# Altium schematic symbol library AditionalSymbols.SchLib: 8 symbols
Pins are listed as number, name and electrical type; pins without a type are passive.

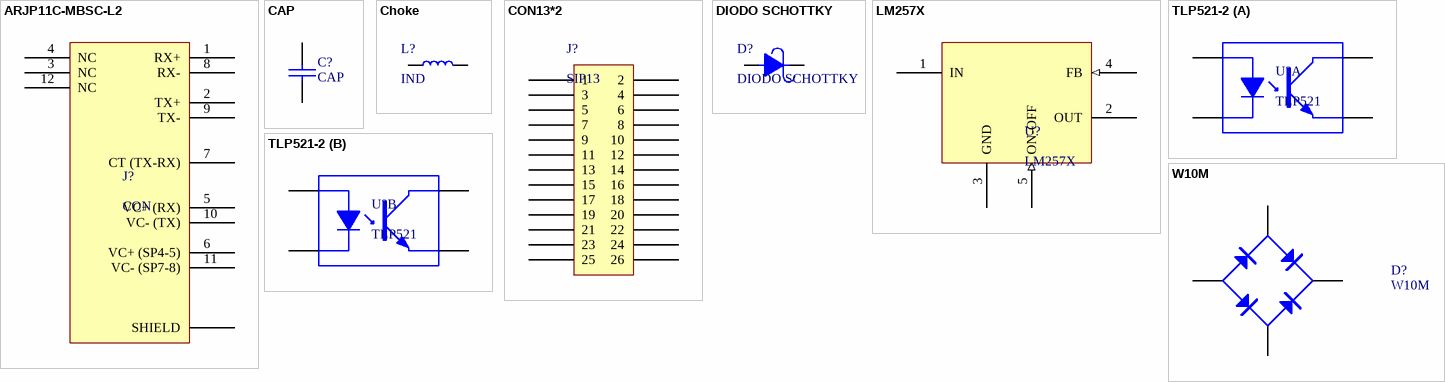
[diagram p0: symbols ARJP11C-MBSC-L2 to W10M]

## ARJP11C-MBSC-L2
designator J?, comment CON
Magjack Connector for PoE
footprint ARJP11C-MB (Magjack Conector for PoE)
pins: 1 RX+, 2 TX+, 3 NC, 4 NC, 5 VC+ (RX), 6 VC+ (SP4-5), 7 CT (TX-RX), 8 RX-, 9 TX-, 10 VC- (TX), 11 VC- (SP7-8), 12 NC, SHIELD

## CAP
designator C?
footprint CAP300 (Capacitor Poliester 8mm)
pins: 1, 2

## Choke
designator L?, comment IND
footprint Choke10.5 (Choke Inductor 10.5mm)
footprint CHOKE_PAD (Choke Inductor SMD)
pins: 1, 2

## CON13*2
designator J?, comment SIP13
footprint SIP13*2
footprint SIP13*2 - HDR
pins: 1, 2, 3, 4, 5, 6, 7, 8, 9, 10, 11, 12, 13, 14, 15, 16, 17, 18, 19, 20, 21, 22, 23, 24, 25, 26

## DIODO SCHOTTKY
designator D?
footprint DO41-EXT
pins: 1, 2

## LM257X
designator U?
Buck Switching Regulator IC Positive Output 1A TO-220-5 Formed Leads
footprint TO220-5
pins: 1 IN (power), 2 OUT (power), 3 GND (power), 4 FB (in), 5 ON-OFF (in)

## TLP521-2
designator U?, comment TLP521
PhotoCoupler
part A pins: 1 A, 2 K, 7 E, 8 C
part B pins: 3 A, 4 K, 5 E, 6 C

## W10M
designator D?
Bridge Rectifier TH 1000V 1.5A
footprint PUENTE - W10M
pins: 1 V+, 2 AC, 3 V-, 4 AC